# Altium footprint library Rich Footprints.PcbLib: 2 footprints
Each footprint in its own frame and in the unit in brackets; x right, y up, seen from the top. Pads: shape width x height; smd on the part's side, far side on the other; paste and mask are expansions set on the pad; w line width, h text height; cw(c..) or ccw(c..) is an arc to the next point about the centre after c.
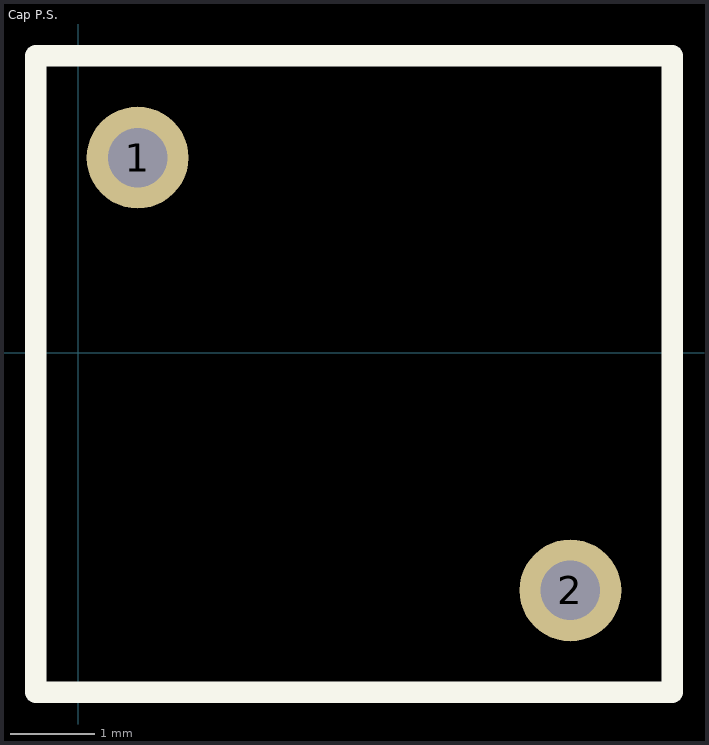
[diagram p0: the footprints below, top view; thin cyan lines are the x and y axes]

## Cap P.S. [mm]
pads (2):
  round 1.2 hole 0.7: 1(0.7,2.3) 2(5.8,-2.8)
Top Overlay:
  lines w0.254: -0.5,-4 7,-4 7,3.5 -0.5,3.5 -0.5,-4

## PCBComponent_1 [mm]